# Altium schematic symbol library Components - 01.03.23 - 12.42.SchLib: 1 symbol
Pins are listed as number, name and electrical type; pins without a type are passive.

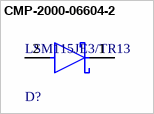
[diagram p0: symbol CMP-2000-06604-2]

## CMP-2000-06604-2
designator D?, comment LSM115JE3/TR13
DIODE SCHOTTKY 15V 1A DO214BA; Manufacturer: Microsemi; Capacitance: 150pF; Peak Reverse Current: 10mA; Value: 150pF; Max Junction Temp: +100°C; Standoff Height: 0.01mm; Max Surge Forward Current: 50A; Device Class L2: Diodes; Automotive: No; Forward Current: 1A; ComponentLink2URL: https://media.digikey.com/pdf/Data%20Sheets/Microsemi%20PDFs/LSM115J.pdf; Max Repetitive Reverse Voltage: 15V; Mouser Description: Schottky Diodes & Rectifiers Schottky Rectifier; Device Class L3: Rectifier Diodes; Footprint Url: https://www.microsemi.com/packaging-information/partpackage/details?pid=5147; Octopart: https://octopart.com/lsm115je3%2Ftr13-microsemi-17743343; Category: Diode; Height: 2.92mm; RoHS: TRUE; Device Class L1: Discrete Semiconductors; Manufacturer Part Number: LSM115JE3/TR13; Lead Free: Yes; Temperature Range High: +100°C; ComponentLink2Description: Datasheet; Package: DO-214BA; Digikey Description: DIODE SCHOTTKY 15V 1A DO214BA; Temperature Range Low: -55°C; Temperature: -55°C to +100°C; Reverse Voltage: 15V
footprint FP-DO-214BA-IPC_C
footprint FP-DO-214BA-IPC_B
footprint FP-DO-214BA-IPC_A
pins: 1 C, 2 A